# Altium footprint library SL_PowerManagement.PcbLib: 15 footprints
Each footprint in its own frame and in the unit in brackets; x right, y up, seen from the top. Pads: shape width x height; smd on the part's side, far side on the other; paste and mask are expansions set on the pad; w line width, h text height; cw(c..) or ccw(c..) is an arc to the next point about the centre after c.
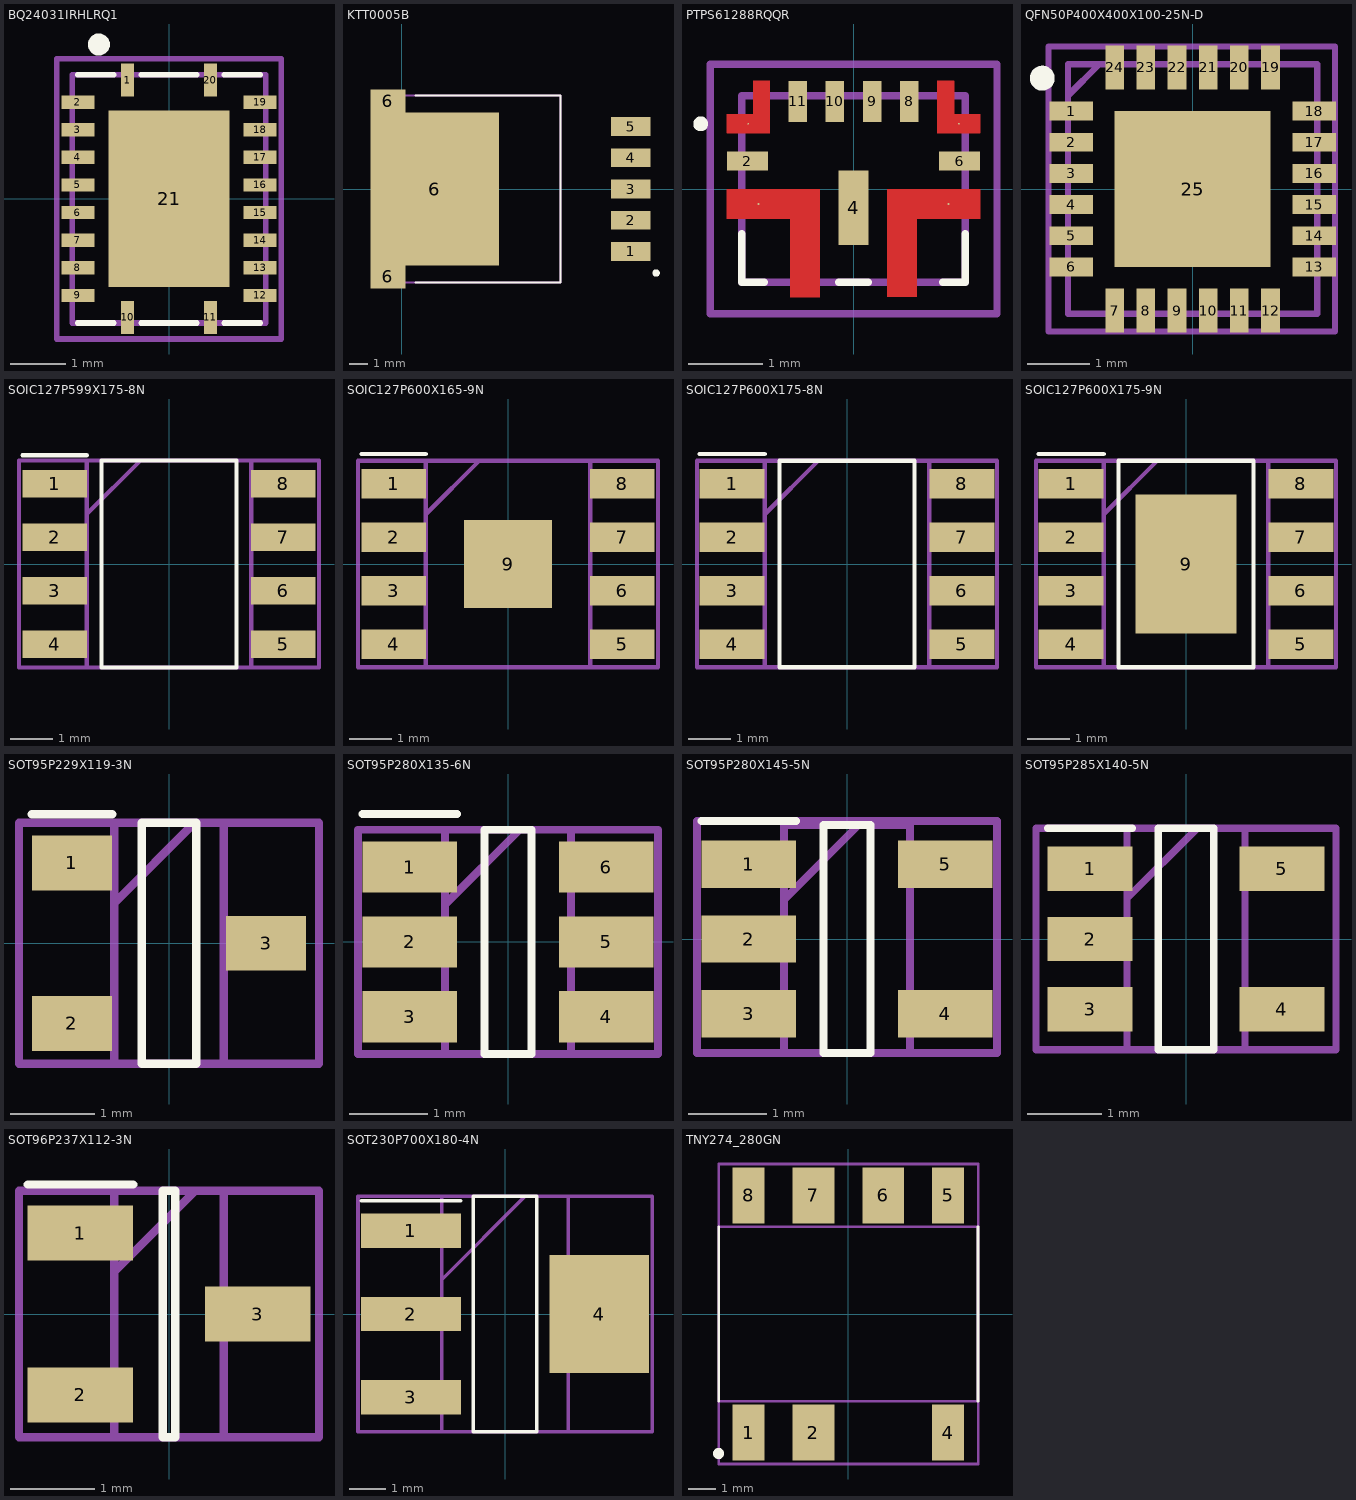
[diagram p0: the footprints below, top view; thin cyan lines are the x and y axes]

## BQ24031IRHLRQ1 [mm]
pads (21):
  rect 0.24x0.6 smd mask+0.02: 1(-0.75,2.15) 10(-0.75,-2.15) 11(0.75,-2.15) 20(0.75,2.15)
  rect 0.6x0.24 smd mask+0.02: 2(-1.65,1.75) 3(-1.65,1.25) 4(-1.65,0.75) 5(-1.65,0.25) 6(-1.65,-0.25) 7(-1.65,-0.75) 8(-1.65,-1.25) 9(-1.65,-1.75) 12(1.65,-1.75) 13(1.65,-1.25) 14(1.65,-0.75) 15(1.65,-0.25) 16(1.65,0.25) 17(1.65,0.75) 18(1.65,1.25) 19(1.65,1.75)
  rect 2.19x3.19 smd mask+0.02: 21(0,0)
Top Overlay:
  circle w0.2: c-1.27,2.794 r0.1
  lines w0.1: -1.65,-2.25 -1,-2.25 ; -1.65,2.25 -1,2.25 ; -0.5,-2.25 0.5,-2.25 ; -0.5,2.25 0.5,2.25 ; 1,-2.25 1.65,-2.25 ; 1,2.25 1.65,2.25
Mechanical 13:
  lines w0.1: -1.75,-2.25 1.75,-2.25 1.75,2.25 -1.75,2.25 -1.75,-2.25
Mechanical 15:
  lines w0.1: -2.032,-2.54 2.032,-2.54 2.032,2.54 -2.032,2.54 -2.032,-2.54
3D body "TPS61088RHLT.stp": height 1, standoff 0, extent -1.75,-2.25 1.75,2.25

## KTT0005B [mm]
pads (8):
  rect 2.16x1.02 smd: 1(12.461,-3.4) 2(12.461,-1.7) 3(12.461,0) 4(12.461,1.7) 5(12.461,3.4)
  rect 1.91x1.235 smd: 6(-0.754,-4.782) 6(-0.754,4.782)
  rect 6.99x8.33 smd: 6(1.786,0)
Top Overlay:
  circle w0.2: c13.843,-4.572 r0.1
  lines w0.1: 0.756,-5.08 8.64,-5.08 8.64,5.08 0.756,5.08
Mechanical 13:
  lines w0.1: 0,-5.08 8.64,-5.08 8.64,5.08 0,5.08 0,-5.08
3D body "LM2576HVS-5.0.stp": height 4.72, standoff 0, extent -1.11,-5.08 13.24,5.08

## PTPS61288RQQR [mm]
pads (11):
  round 0.025 smd mask+0.04: 1(-1.413,0.875) 3(-1.275,-0.2) 5(1.275,-0.2) 7(1.413,0.875)
  rect 0.55x0.25 smd mask+0.04: 2(-1.425,0.375) 6(1.425,0.375)
  rect 0.4x1 smd mask+0.04: 4(0,-0.25)
  rect 0.25x0.55 smd mask+0.04: 8(0.75,1.175) 9(0.25,1.175) 10(-0.25,1.175) 11(-0.75,1.175)
Top Layer:
  region: -1.7,0 -1.7,-0.4 -0.85,-0.4 -0.85,-1.45 -0.45,-1.45 -0.45,0
  region: 1.35,1 1.35,1.45 1.125,1.45 1.125,0.75 1.7,0.75 1.7,1
  region: 0.45,0 0.45,-1.448 0.85,-1.448 0.85,-0.4 1.7,-0.4 1.7,0
  region: -1.348,1.45 -1.348,1 -1.7,1 -1.7,0.75 -1.125,0.75 -1.125,1.45
Top Overlay:
  lines w0.1: -1.5,-0.6 -1.5,-1.25 -1.2,-1.25 ; -0.2,-1.25 0.2,-1.25 ; 1.2,-1.25 1.5,-1.25 1.5,-0.6 ; -2.1,0.875 ccw(c-2.05,0.875) -2,0.875 ccw(c-2.05,0.875) -2.1,0.875
Mechanical 13:
  lines w0.1: -1.5,-1.25 -1.5,1.25 1.5,1.25 1.5,-1.25 -1.5,-1.25
Mechanical 15:
  lines w0.1: -1.925,-1.675 -1.925,1.675 1.925,1.675 1.925,-1.675 -1.925,-1.675
3D body "TPS61288LRQQR.stp": height 1, standoff 0, extent -1.5,-1.25 1.5,1.25

## QFN50P400X400X100-25N-D [mm]
pads (25):
  rect 0.7x0.3 smd mask+0.02: 1(-1.95,1.25) 2(-1.95,0.75) 3(-1.95,0.25) 4(-1.95,-0.25) 5(-1.95,-0.75) 6(-1.95,-1.25) 13(1.95,-1.25) 14(1.95,-0.75) 15(1.95,-0.25) 16(1.95,0.25) 17(1.95,0.75) 18(1.95,1.25)
  rect 0.3x0.7 smd mask+0.02: 7(-1.25,-1.95) 8(-0.75,-1.95) 9(-0.25,-1.95) 10(0.25,-1.95) 11(0.75,-1.95) 12(1.25,-1.95) 19(1.25,1.95) 20(0.75,1.95) 21(0.25,1.95) 22(-0.25,1.95) 23(-0.75,1.95) 24(-1.25,1.95)
  rect 2.5x2.5 smd mask+0.02: 25(0,0)
Top Overlay:
  circle w0.2: c-2.413,1.778 r0.1
Mechanical 13:
  lines w0.1: -2,1.5 -1.5,2 ; -2,-2 -2,2 2,2 2,-2 -2,-2
Mechanical 15:
  lines w0.1: -2.313,-2.286 -2.313,2.286 2.286,2.286 2.286,-2.286 -2.313,-2.286
3D body "BQ25886RGER.stp": height 1, standoff 0, extent -2,-2 2,2

## SOIC127P599X175-8N [mm]
pads (8):
  rect 1.526x0.65 smd: 1(-2.712,1.905) 2(-2.712,0.635) 3(-2.712,-0.635) 4(-2.712,-1.905) 5(2.712,-1.905) 6(2.712,-0.635) 7(2.712,0.635) 8(2.712,1.905)
Top Overlay:
  lines w0.1: -3.475,2.58 -1.95,2.58 ; -1.6,-2.451 1.6,-2.451 1.6,2.451 -1.6,2.451 -1.6,-2.451
Mechanical 13:
  lines w0.1: -1.95,1.181 -0.68,2.451 ; -1.95,-2.451 1.95,-2.451 1.95,2.451 -1.95,2.451 -1.95,-2.451
Mechanical 15:
  lines w0.1: -3.556,-2.451 3.556,-2.451 3.556,2.451 -3.556,2.451 -3.556,-2.451
3D body "LT1763IS8-3.3#PBF.stp": height 1.75, standoff 0, extent -2.997,-2.451 2.997,2.451

## SOIC127P600X165-9N [mm]
pads (9):
  rect 1.525x0.7 smd: 1(-2.712,1.905) 2(-2.712,0.635) 3(-2.712,-0.635) 4(-2.712,-1.905) 5(2.712,-1.905) 6(2.712,-0.635) 7(2.712,0.635) 8(2.712,1.905)
  rect 2.09x2.09 smd: 9(0,0)
Top Overlay:
  lines w0.1: -3.475,2.605 -1.95,2.605
Mechanical 13:
  lines w0.1: -1.95,1.18 -0.68,2.45 ; -1.95,-2.45 -1.95,2.45 1.95,2.45 1.95,-2.45 -1.95,-2.45
Mechanical 15:
  lines w0.1: -3.556,-2.45 -3.556,2.45 3.556,2.45 3.556,-2.45 -3.556,-2.45
3D body "IP2312.stp": height 1.65, standoff 0, extent -3,-2.45 3,2.45

## SOIC127P600X175-8N [mm]
pads (8):
  rect 1.55x0.7 smd: 1(-2.725,1.905) 2(-2.725,0.635) 3(-2.725,-0.635) 4(-2.725,-1.905) 5(2.725,-1.905) 6(2.725,-0.635) 7(2.725,0.635) 8(2.725,1.905)
Top Overlay:
  lines w0.1: -3.5,2.605 -1.95,2.605 ; -1.6,-2.45 1.6,-2.45 1.6,2.45 -1.6,2.45 -1.6,-2.45
Mechanical 13:
  lines w0.1: -1.95,1.18 -0.68,2.45 ; -1.95,-2.45 1.95,-2.45 1.95,2.45 -1.95,2.45 -1.95,-2.45
Mechanical 15:
  lines w0.1: -3.556,-2.45 3.556,-2.45 3.556,2.45 -3.556,2.45 -3.556,-2.45
3D body "XL1509-5.0E1.stp": height 1.75, standoff 0, extent -3,-2.45 3,2.45

## SOIC127P600X175-9N [mm]
pads (9):
  rect 1.55x0.7 smd: 1(-2.725,1.905) 2(-2.725,0.635) 3(-2.725,-0.635) 4(-2.725,-1.905) 5(2.725,-1.905) 6(2.725,-0.635) 7(2.725,0.635) 8(2.725,1.905)
  rect 2.4x3.3 smd: 9(0,0)
Top Overlay:
  lines w0.1: -3.5,2.605 -1.95,2.605 ; -1.6,-2.45 -1.6,2.45 1.6,2.45 1.6,-2.45 -1.6,-2.45
Mechanical 13:
  lines w0.1: -1.95,1.18 -0.68,2.45 ; -1.95,-2.45 -1.95,2.45 1.95,2.45 1.95,-2.45 -1.95,-2.45
Mechanical 15:
  lines w0.1: -3.556,-2.45 -3.556,2.45 3.556,2.45 3.556,-2.45 -3.556,-2.45
3D body "IP2312.stp": height 1.65, standoff 0, extent -3,-2.45 3,2.45

## SOT95P229X119-3N [mm]
pads (3):
  rect 0.95x0.65 smd: 1(-1.15,0.952) 2(-1.15,-0.952) 3(1.15,0)
Top Overlay:
  lines w0.1: -1.625,1.528 -0.675,1.528 ; -0.325,-1.429 0.325,-1.429 0.325,1.429 -0.325,1.429 -0.325,-1.429
Mechanical 13:
  lines w0.1: -0.648,0.476 0.305,1.429 ; -0.648,-1.429 0.648,-1.429 0.648,1.429 -0.648,1.429 -0.648,-1.429
Mechanical 15:
  lines w0.1: -1.778,-1.429 1.778,-1.429 1.778,1.429 -1.778,1.429 -1.778,-1.429
3D body "MAX6120EUR+T.stp": height 1.19, standoff 0, extent -1.143,-1.429 1.143,1.429

## SOT95P280X135-6N [mm]
pads (6):
  rect 1.2x0.65 smd mask+0.051: 1(-1.25,0.95) 2(-1.25,0) 3(-1.25,-0.95) 4(1.25,-0.95) 5(1.25,0) 6(1.25,0.95)
Top Overlay:
  lines w0.1: -1.85,1.625 -0.65,1.625 ; -0.3,-1.425 -0.3,1.425 0.3,1.425 0.3,-1.425 -0.3,-1.425
Mechanical 13:
  lines w0.1: -0.8,0.475 0.15,1.425 ; -0.8,-1.425 -0.8,1.425 0.8,1.425 0.8,-1.425 -0.8,-1.425
Mechanical 15:
  lines w0.1: -1.905,-1.425 -1.905,1.425 1.905,1.425 1.905,-1.425 -1.905,-1.425
3D body "DW01A-G.stp": height 1.35, standoff 0, extent -1.4,-1.425 1.4,1.425

## SOT95P280X145-5N [mm]
pads (5):
  rect 1.2x0.6 smd mask+0.051: 1(-1.25,0.95) 2(-1.25,0) 3(-1.25,-0.95) 4(1.25,-0.95) 5(1.25,0.95)
Top Overlay:
  lines w0.1: -1.85,1.5 -0.65,1.5 ; -0.3,-1.45 0.3,-1.45 0.3,1.45 -0.3,1.45 -0.3,-1.45
Mechanical 13:
  lines w0.1: -0.8,0.5 0.15,1.45 ; -0.8,-1.45 0.8,-1.45 0.8,1.45 -0.8,1.45 -0.8,-1.45
Mechanical 15:
  lines w0.1: -1.905,-1.45 1.905,-1.45 1.905,1.5 -1.905,1.5 -1.905,-1.45
3D body "LP2980AIM5-4.7_NOPB.stp": height 1.2, standoff 0, extent -1.4,-1.45 1.4,1.45

## SOT95P285X140-5N [mm]
pads (5):
  rect 1.15x0.6 smd: 1(-1.3,0.95) 2(-1.3,0) 3(-1.3,-0.95) 4(1.3,-0.95) 5(1.3,0.95)
Top Overlay:
  lines w0.1: -1.875,1.5 -0.725,1.5 ; -0.375,-1.5 -0.375,1.5 0.375,1.5 0.375,-1.5 -0.375,-1.5
Mechanical 13:
  lines w0.1: -0.8,0.55 0.15,1.5 ; -0.8,-1.5 -0.8,1.5 0.8,1.5 0.8,-1.5 -0.8,-1.5
Mechanical 15:
  lines w0.1: -2.032,-1.5 -2.032,1.5 2.032,1.5 2.032,-1.5 -2.032,-1.5
3D body "AP7330D-W5-7.stp": height 1.4, standoff 0, extent -1.425,-1.5 1.425,1.5

## SOT96P237X112-3N [mm]
pads (3):
  rect 1.25x0.65 smd: 1(-1.05,0.96) 2(-1.05,-0.96) 3(1.05,0)
Top Overlay:
  lines w0.1: -1.675,1.535 -0.425,1.535 ; -0.075,-1.46 0.075,-1.46 0.075,1.46 -0.075,1.46 -0.075,-1.46
Mechanical 13:
  lines w0.1: -0.65,0.5 0.31,1.46 ; -0.65,-1.46 0.65,-1.46 0.65,1.46 -0.65,1.46 -0.65,-1.46
Mechanical 15:
  lines w0.1: -1.778,-1.46 1.778,-1.46 1.778,1.46 -1.778,1.46 -1.778,-1.46
3D body "ADR380ARTZ-REEL7.stp": height 1.12, standoff 0, extent -1.185,-1.46 1.185,1.46

## SOT230P700X180-4N [mm]
pads (4):
  rect 2.75x0.95 smd: 1(-2.6,2.3) 2(-2.6,0) 3(-2.6,-2.3)
  rect 2.75x3.25 smd: 4(2.6,0)
Top Overlay:
  lines w0.1: -3.975,3.125 -1.225,3.125 ; -0.875,-3.25 0.875,-3.25 0.875,3.25 -0.875,3.25 -0.875,-3.25
Mechanical 13:
  lines w0.1: -1.75,0.95 0.55,3.25 ; -1.75,-3.25 1.75,-3.25 1.75,3.25 -1.75,3.25 -1.75,-3.25
Mechanical 15:
  lines w0.1: -4.064,-3.25 4.064,-3.25 4.064,3.25 -4.064,3.25 -4.064,-3.25
3D body "LDL1117S33R.stp": height 1.56, standoff 0, extent -3.5,-3.25 3.5,3.25

## TNY274_280GN [mil]
pads (7):
  rect 45.98x80 smd: 1(-142.99,-170) 4(142.99,-170) 5(142.99,170) 8(-142.99,170)
  rect 60x80 smd: 2(-50,-170) 6(50,170) 7(-50,170)
Top Overlay:
  circle w7.87: c-186.02,-200 r3.94
  lines w3.94: -185.83,-125 -185.83,125 ; 185.83,-125 185.83,125
Mechanical 13:
  lines w3.94: -185.83,-125 -185.83,125 185.83,125 185.83,-125 -185.83,-125
Mechanical 15:
  lines w3.94: -185.83,-215 -185.83,215 186.02,215 186.02,-215 -185.83,-215
3D body "TNY277GN.stp": height 145.67, standoff -1.97, extent -186.02,-189.96 186.02,189.96